# Altium footprint library AIRZAI_LID_BD_REVA.PcbLib: 53 footprints (part 4 of 4)
Each footprint in its own frame and in the unit in brackets; x right, y up, seen from the top. Pads: shape width x height; smd on the part's side, far side on the other; paste and mask are expansions set on the pad; w line width, h text height; cw(c..) or ccw(c..) is an arc to the next point about the centre after c.
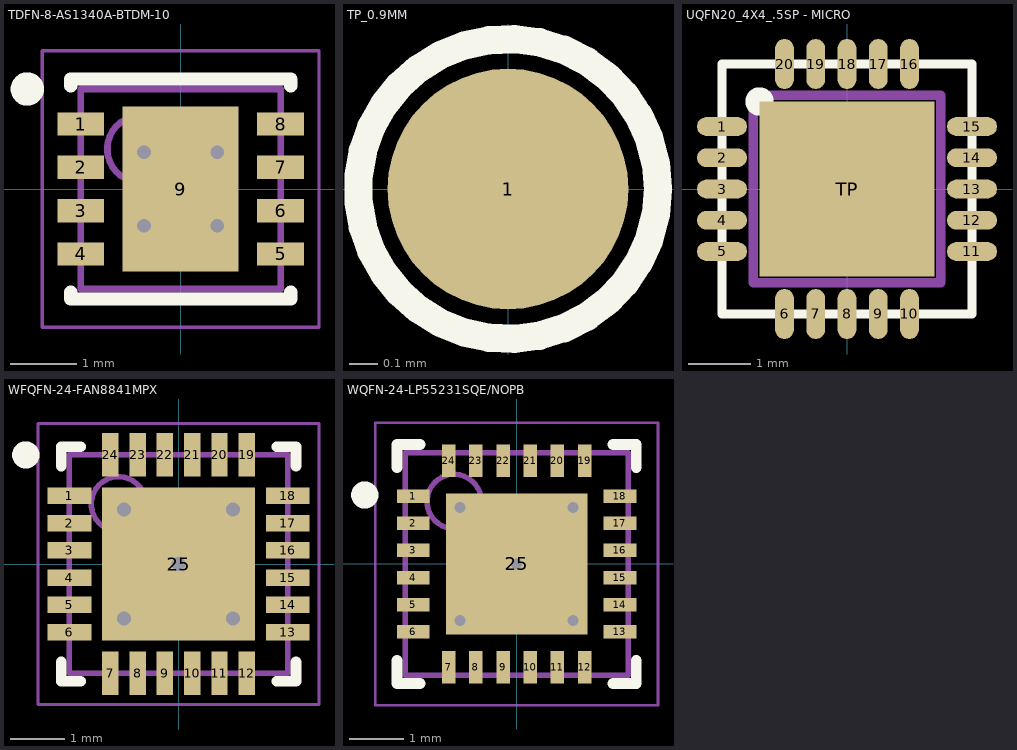
[diagram p3: the footprints below, top view; thin cyan lines are the x and y axes]

## TDFN-8-AS1340A-BTDM-10 [mm]
height 0.8
pads (9):
  rect 0.7x0.35 smd: 1(-1.498,0.975) 2(-1.498,0.325) 3(-1.498,-0.325) 4(-1.498,-0.975) 5(1.498,-0.975) 6(1.498,-0.325) 7(1.498,0.325) 8(1.498,0.975)
  rect 1.74x2.48 smd: 9(0,0)
via 0.55,-0.55 diameter 0.508 hole 0.203
via -0.55,-0.55 diameter 0.508 hole 0.203
via 0.55,0.55 diameter 0.508 hole 0.203
via -0.55,0.55 diameter 0.508 hole 0.203
Top Overlay:
  circle w0.25: c-2.3,1.5 r0.125
  lines w0.2: -1.65,-1.55 -1.65,-1.65 0.25,-1.65 1.65,-1.65 1.65,-1.55 ; -1.65,1.55 -1.65,1.65 0.25,1.65 1.65,1.65 1.65,1.55
Mechanical 13:
  circle w0.1: c-0.6,0.6 r0.5
  lines w0.1: -1.5,-1.5 1.5,-1.5 1.5,1.5 -1.5,1.5 -1.5,-1.5
Mechanical 15:
  lines w0.05: -2.075,-2.075 2.075,-2.075 2.075,2.075 -2.075,2.075 -2.075,-2.075
  lines w0.1: -0.5,0 0.5,0 ; 0,-0.5 0,0.5
3D body "TDFN-8-AS1340A-BTDM-10.step": height 0.8, standoff 0, extent -1.51,-1.5 1.51,1.5

## TP_0.9MM [mm] "0.9MM DIA TESTPOINT"
height 7
pads (1):
  round 0.85 smd paste-5 mask+0.05: 1(0,0)
Top Overlay:
  circle w0.1: c0,0 r0.53

## UQFN20_4X4_.5SP - MICRO [mm]
height 0.5
pads (21):
  rrect100% 0.8x0.3 smd paste-0.025 mask+0.05: 1(-2,1) 2(-2,0.5) 3(-2,0) 4(-2,-0.5) 5(-2,-1) 11(2,-1) 12(2,-0.5) 13(2,0) 14(2,0.5) 15(2,1)
  rrect100% 0.3x0.8 smd paste-0.025 mask+0.05: 6(-1,-2) 7(-0.5,-2) 8(0,-2) 9(0.5,-2) 10(1,-2) 16(1,2) 17(0.5,2) 18(0,2) 19(-0.5,2) 20(-1,2)
  rect 2.8x2.8 smd paste-5 mask+0.05: TP(0,0)
Top Overlay:
  circle w0.254: c-1.4,1.4 r0.1
  lines w0.15: -2,-2 -2,2 2,2 2,-2 -2,-2
Top Paste:
  region: 1.194,-0.508 1.202,-0.527 1.202,-1.077 1.194,-1.096 1.175,-1.104 0.625,-1.104 0.606,-1.096 0.598,-1.077 0.598,-0.527 0.606,-0.508 0.625,-0.5 1.175,-0.5
  region: 1.192,0.294 1.2,0.275 1.2,-0.275 1.192,-0.294 1.173,-0.302 0.623,-0.302 0.604,-0.294 0.596,-0.275 0.596,0.275 0.604,0.294 0.623,0.302 1.173,0.302
  region: 1.194,1.096 1.202,1.077 1.202,0.527 1.194,0.508 1.175,0.5 0.625,0.5 0.606,0.508 0.598,0.527 0.598,1.077 0.606,1.096 0.625,1.104 1.175,1.104
  region: 0.294,-0.508 0.302,-0.527 0.302,-1.077 0.294,-1.096 0.275,-1.104 -0.275,-1.104 -0.294,-1.096 -0.302,-1.077 -0.302,-0.527 -0.294,-0.508 -0.275,-0.5 0.275,-0.5
  region: 0.292,0.294 0.3,0.275 0.3,-0.275 0.292,-0.294 0.273,-0.302 -0.277,-0.302 -0.296,-0.294 -0.304,-0.275 -0.304,0.275 -0.296,0.294 -0.277,0.302 0.273,0.302
  region: 0.294,1.096 0.302,1.077 0.302,0.527 0.294,0.508 0.275,0.5 -0.275,0.5 -0.294,0.508 -0.302,0.527 -0.302,1.077 -0.294,1.096 -0.275,1.104 0.275,1.104
  region: -0.606,1.096 -0.598,1.077 -0.598,0.527 -0.606,0.508 -0.625,0.5 -1.175,0.5 -1.194,0.508 -1.202,0.527 -1.202,1.077 -1.194,1.096 -1.175,1.104 -0.625,1.104
  region: -0.608,0.294 -0.6,0.275 -0.6,-0.275 -0.608,-0.294 -0.627,-0.302 -1.177,-0.302 -1.196,-0.294 -1.204,-0.275 -1.204,0.275 -1.196,0.294 -1.177,0.302 -0.627,0.302
  region: -0.606,-0.508 -0.598,-0.527 -0.598,-1.077 -0.606,-1.096 -0.625,-1.104 -1.175,-1.104 -1.194,-1.096 -1.202,-1.077 -1.202,-0.527 -1.194,-0.508 -1.175,-0.5 -0.625,-0.5
Mechanical 1:
  circle w0.15: c-0.85,-0.85 r0.206
  lines w0.15: -1.5,-1.5 -1.5,1.5 1.5,1.5 1.5,-1.5 -1.5,-1.5
  text ".Designator" at -1.1,-0.325 h0.48
3D body: height 0.5, standoff 0, extent -2,-2 2,2

## WFQFN-24-FAN8841MPX [mm]
height 0.8
pads (25):
  rect 0.8x0.3 smd mask+0.07: 1(-2,1.25) 2(-2,0.75) 3(-2,0.25) 4(-2,-0.25) 5(-2,-0.75) 6(-2,-1.25) 13(2,-1.25) 14(2,-0.75) 15(2,-0.25) 16(2,0.25) 17(2,0.75) 18(2,1.25)
  rect 0.3x0.8 smd mask+0.07: 7(-1.25,-2) 8(-0.75,-2) 9(-0.25,-2) 10(0.25,-2) 11(0.75,-2) 12(1.25,-2) 19(1.25,2) 20(0.75,2) 21(0.25,2) 22(-0.25,2) 23(-0.75,2) 24(-1.25,2)
  rect 2.8x2.8 smd: 25(0,0)
via 0,0 diameter 0.508 hole 0.254
via 1,-1 diameter 0.508 hole 0.254
via -1,-1 diameter 0.508 hole 0.254
via 1,1 diameter 0.508 hole 0.254
via -1,1 diameter 0.508 hole 0.254
Top Overlay:
  circle w0.25: c-2.8,2 r0.125
  lines w0.2: -2.15,-1.8 -2.15,-2.15 -1.8,-2.15 ; -2.15,1.8 -2.15,2.15 -1.8,2.15 ; 1.8,-2.15 2.15,-2.15 2.15,-1.8 ; 1.8,2.15 2.15,2.15 2.15,1.8
Mechanical 13:
  circle w0.1: c-1.1,1.1 r0.5
  lines w0.1: -2,-2 2,-2 2,2 -2,2 -2,-2
Mechanical 15:
  lines w0.05: -2.575,-2.575 2.575,-2.575 2.575,2.575 -2.575,2.575 -2.575,-2.575
  lines w0.1: -0.5,0 0.5,0 ; 0,-0.5 0,0.5
3D body "WFQFN-24-FAN8841MPX.step": height 0.8, standoff 0, extent -2.05,-2.05 2.05,2.05

## WQFN-24-LP55231SQE/NOPB [mm] "QFN, 24-Leads, Body 3.97x3.97mm, Pitch 0.50mm, Thermal Pad 2.60x2.60mm, IPC Medium Density"
height 0.8
pads (25):
  rect 0.6x0.25 smd: 1(-1.9,1.25) 2(-1.9,0.75) 3(-1.9,0.25) 4(-1.9,-0.25) 5(-1.9,-0.75) 6(-1.9,-1.25) 13(1.9,-1.25) 14(1.9,-0.75) 15(1.9,-0.25) 16(1.9,0.25) 17(1.9,0.75) 18(1.9,1.25)
  rect 0.25x0.6 smd: 7(-1.25,-1.9) 8(-0.75,-1.9) 9(-0.25,-1.9) 10(0.25,-1.9) 11(0.75,-1.9) 12(1.25,-1.9) 19(1.25,1.9) 20(0.75,1.9) 21(0.25,1.9) 22(-0.25,1.9) 23(-0.75,1.9) 24(-1.25,1.9)
  rect 2.6x2.6 smd: 25(0,0)
via 1.04,-1.04 diameter 0.508 hole 0.203
via -1.04,-1.04 diameter 0.508 hole 0.203
via 1.04,1.04 diameter 0.508 hole 0.203
via -1.04,1.04 diameter 0.508 hole 0.203
via 0,0 diameter 0.508 hole 0.203
Top Overlay:
  circle w0.25: c-2.794,1.27 r0.125
  lines w0.2: -2.2,-1.775 -2.2,-2.2 -1.775,-2.2 ; -2.2,1.775 -2.2,2.2 -1.775,2.2 ; 1.775,-2.2 2.2,-2.2 2.2,-1.775 ; 1.775,2.2 2.2,2.2 2.2,1.775
Mechanical 13:
  circle w0.1: c-1.15,1.15 r0.5
  lines w0.1: -2.05,-2.05 2.05,-2.05 2.05,2.05 -2.05,2.05 -2.05,-2.05
Mechanical 15:
  lines w0.05: -2.6,-2.6 2.6,-2.6 2.6,2.6 -2.6,2.6 -2.6,-2.6
  lines w0.1: -0.5,0 0.5,0 ; 0,-0.5 0,0.5
3D body "User Library-WQFN-24.STEP": height 0.8, standoff 0, extent -2.01,-2.01 2.01,2.01